# Altium schematic symbol library Switch SPST APEM.Schlib: 1 symbol
Pins are listed as number, name and electrical type; pins without a type are passive.

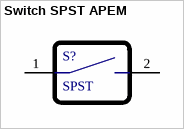
[diagram p0: symbol Switch SPST APEM]

## Switch SPST APEM
designator S?, comment SPST
Switch, SPST, pushbutton
pins: 1 0, 2 1